# Altium schematic symbol library Dahlia Carrier Board.SchLib: 161 symbols (part 2 of 2)
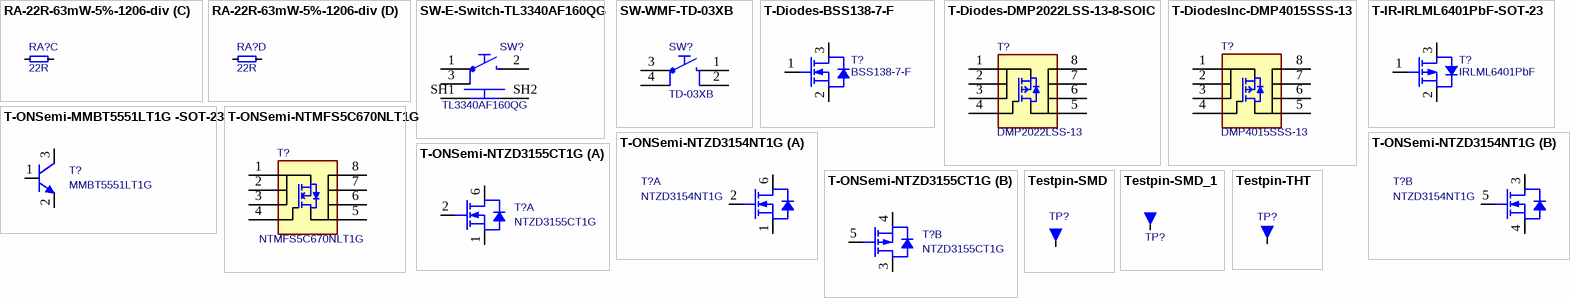
[diagram p9: symbols RA-22R-63mW-5%-1206-div to Testpin-THT]

## T-ONSemi-NTZD3155CT1G
designator T?, comment NTZD3155CT1G
N- and P-Channel MOSFET 20V; Manufacturer Name: ONSemi; Manufacturer Part No.: NTZD3155CT1G
footprint SOTFL50P160X60-6N
part A pins: 1 S, 2 G, 6 D
part B pins: 3 D, 4 S, 5 G

## Testpin-SMD
designator TP?  (value not drawn)  (no BOM)
Testpin SMD
footprint T_TP-SMD (Testpin SMD)
pins: 1

## Testpin-SMD_1
designator TP?, comment Testpin-SMD  (value not drawn)  (no BOM)
Testpin SMD
footprint T_TP-SMD (Testpin SMD)
pins: 1

## Testpin-THT
designator TP?  (value not drawn)  (no BOM)
Testpin THT
footprint T_TP-THT (Testpin TH)
pins: 1